# Altium integrated library Linear Technology Power Management LED Driver ICs.IntLib: 490 symbols (part 40 of 48)
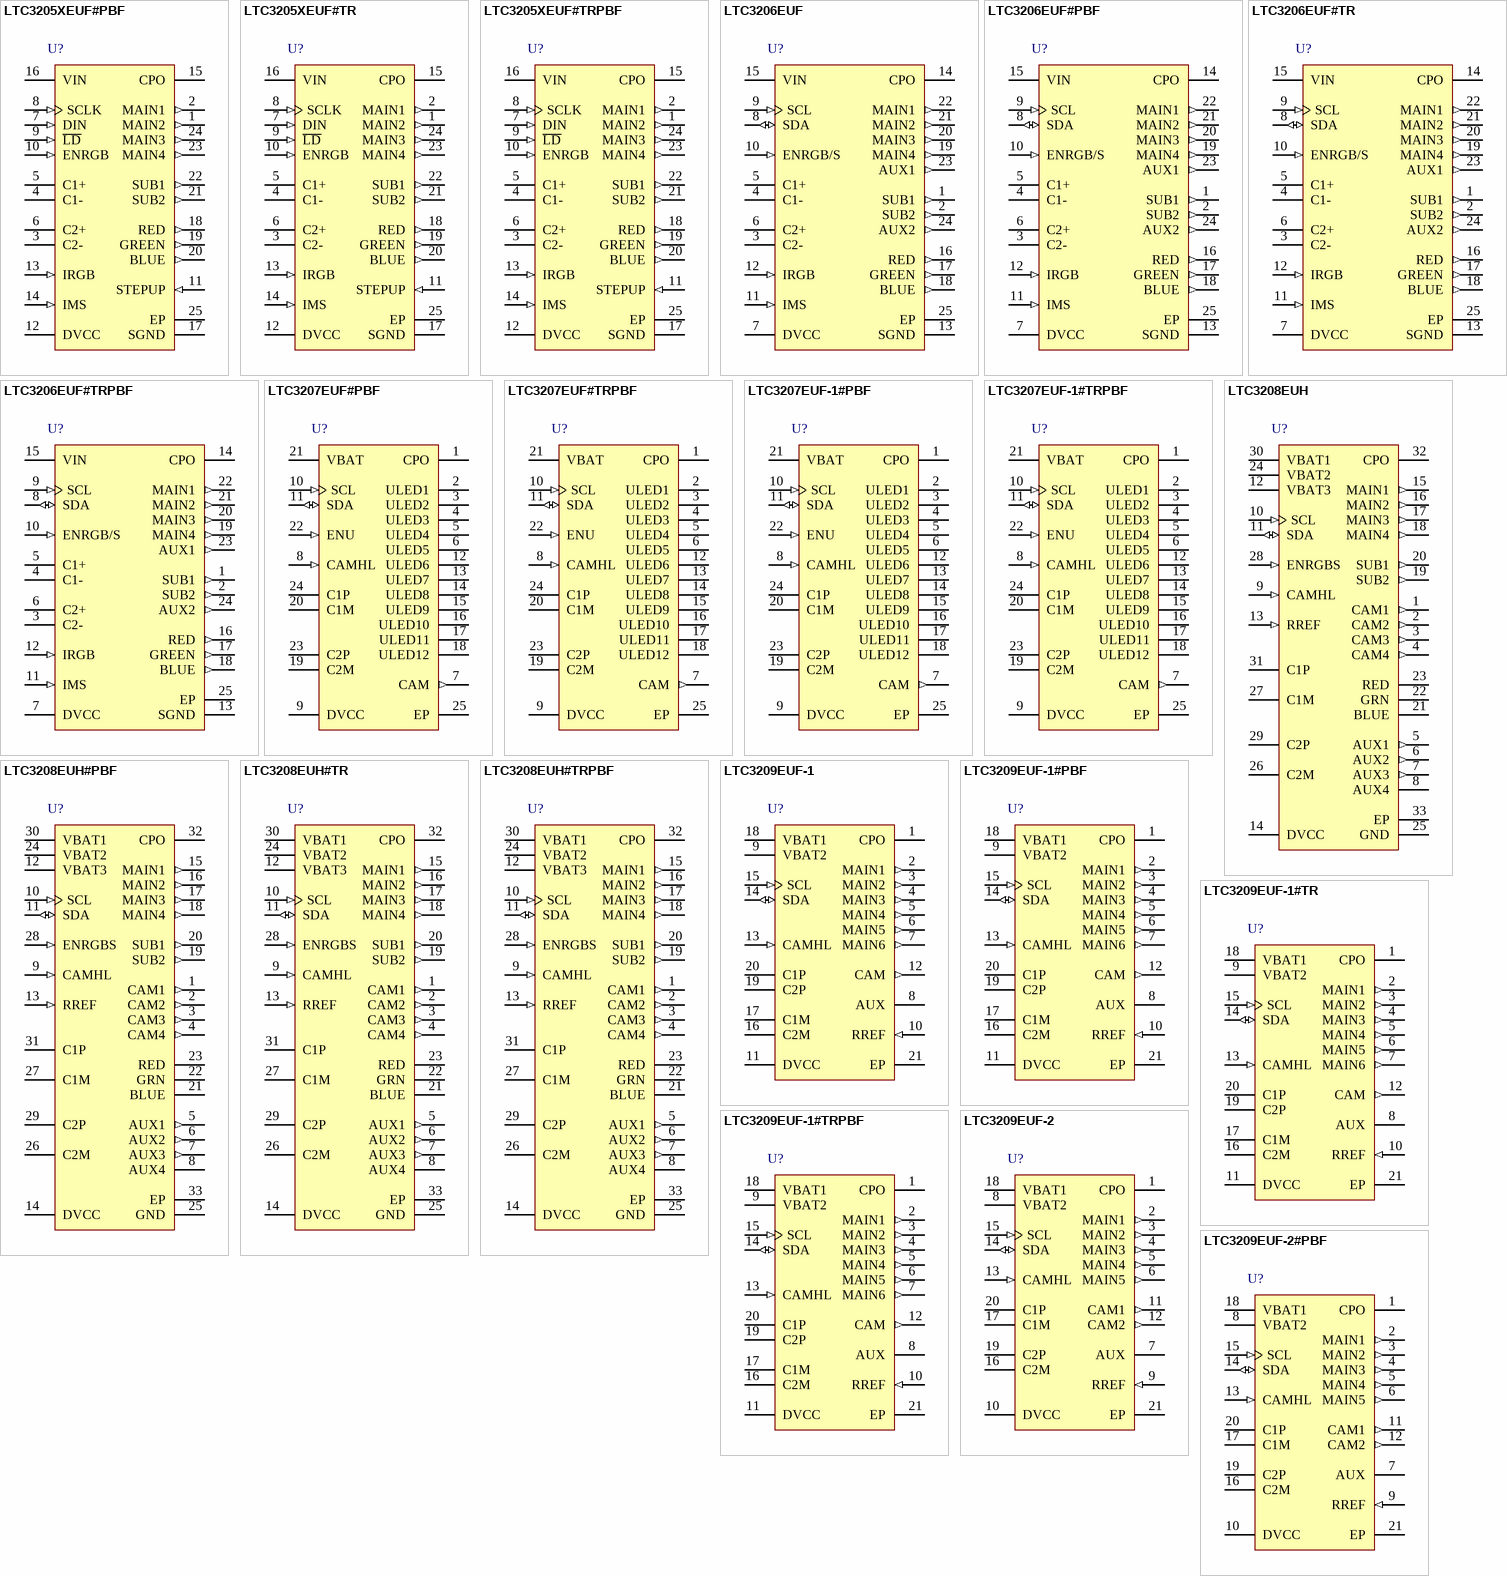
[diagram p59: symbols LTC3205XEUF#PBF to LTC3209EUF-2#PBF]

## LTC3208EUH#PBF
designator U?
High Current Software Configurable Multidisplay LED Controller, 2.9 to 4.5 V Vin, 5 V Vout MAX, 32-pin QFN (UH-32), -40 to 85 degC, Pb-Free; Manufacturer: Linear Technology; PartNumber: LTC3208EUH#PBF; Topology: Charge Pump, LED Driver; Vin Min(V): 2.9; DatasheetVersion: Rev. A; PackageVersion: Rev. D, 06/2010; PackageReference: UH-32; PackageDescription: 32-Pin Plastic QFN, Body 5 x 5 mm, Pitch 0.5 mm; Supplier 1: Digi-Key; Supplier Part Number 1: LTC3208EUH#PBF-ND; Supplier 2: Newark; Supplier Part Number 2: 56M7385; RoHS: TRUE; Mounting Technology: Surface Mount; Code_JEDEC: MO-220; ComponentLink1Description: Manufacturer URL; ComponentLink1URL: http://www.linear.com/; ComponentLink2Description: Datasheet; ComponentLink2URL: http://cds.linear.com/docs/en/datasheet/3208fa.pdf; ComponentLink3Description: Package Specification; ComponentLink3URL: http://cds.linear.com/docs/en/packaging/QFN_32_05-08-1693.pdf
footprint LT-UH-32_N (QFN, 32-Leads, Body 5.1x5.1mm, Pitch 0.5mm, Thermal Pad 3.45X3.45mm, IPC Medium Density)
footprint LT-UH-32_L (QFN, 32-Leads, Body 5.1x5.1mm, Pitch 0.5mm, Thermal Pad 3.45X3.45mm, IPC High Density)
footprint LT-UH-32_M (QFN, 32-Leads, Body 5.1x5.1mm, Pitch 0.5mm, Thermal Pad 3.45X3.45mm, IPC Low Density)
pins: 1 CAM1 (out) "Current Source Output for the CAM Display White LED. The LEDs on the CAM display can be set from 0mA to 102mA in 16 steps via software control and internal 4-bit linear DAC. Two 4-bit registers are available. One is used to (See Datasheet)", 2 CAM2 (out) "Current Source Output for the CAM Display White LED. The LEDs on the CAM display can be set from 0mA to 102mA in 16 steps via software control and internal 4-bit linear DAC. Two 4-bit registers are available. One is used to (See Datasheet)", 3 CAM3 (out) "Current Source Output for the CAM Display White LED. The LEDs on the CAM display can be set from 0mA to 102mA in 16 steps via software control and internal 4-bit linear DAC. Two 4-bit registers are available. One is used to (See Datasheet)", 4 CAM4 (out) "Current Source Output for the CAM Display White LED. The LEDs on the CAM display can be set from 0mA to 102mA in 16 steps via software control and internal 4-bit linear DAC. Two 4-bit registers are available. One is used to (See Datasheet)", 5 AUX1 (out) "Current Source Output for the AUX Display White LED. When used as a separate display, the LED current sources of the AUX display can be set from 0mA to 26mA in 16 steps via software control and internal 4-bit linear DAC. In (See Datasheet)", 6 AUX2 (out) "Current Source Output for the AUX Display White LED. When used as a separate display, the LED current sources of the AUX display can be set from 0mA to 26mA in 16 steps via software control and internal 4-bit linear DAC. In (See Datasheet)", 7 AUX3 (out) "Current Source Output for the AUX Display White LED. When used as a separate display, the LED current sources of the AUX display can be set from 0mA to 26mA in 16 steps via software control and internal 4-bit linear DAC. In (See Datasheet)", 8 AUX4 (oc) "Current Source Output for the AUX Display White LED. When used as a separate display, the LED current sources of the AUX display can be set from 0mA to 26mA in 16 steps via software control and internal 4-bit linear DAC. In (See Datasheet)", 9 CAMHL (in) "Logic Input. Selects CAM high register when asserted High and CAM Low Register when low. The high to low transition automatically resets the charge pump mode to 1x.", 10 SCL (in) "I2C Clock Input. The logic level for SCL is referenced to DVCC.", 11 SDA (io) "I2C Data Input for the Serial Port. Serial data is shifted in one bit per clock to control the LTC3208. The logic level is referenced to DVCC.", 12 VBAT3 (power) "Supply Voltage for the Entire Device. Three separate pins are used to isolate the charge pump from the analog sections to reduce noise. All pins must be connected together externally and bypassed with a 4.7uF low ESR ceramic (See Datasheet)", 13 RREF (in) ""Controls the Maximum Amount of LED Current for all Displays. The RREF voltage is 1.215V. An external resistor to ground sets the reference currents for all display DACs and support circuits. Since this resistor", 14 DVCC (power) "Supply Voltage for all Digital I/O Lines. This pin sets the logic reference level of the LTC3208. A UVLO circuit on the DVCC pin forces all registers to all 0s whenever DVCC is below the DVCC UVLO threshold. Bypass to GND (See Datasheet)", 15 MAIN1 (out) "Current Source Output for the MAIN Display White LED. The LEDs on the MAIN display can be set from 0uA to 27.5mA in 256 steps via software control and internal 8-bit linear DAC. Each output can be disabled externally by (See Datasheet)", 16 MAIN2 (out) "Current Source Output for the MAIN Display White LED. The LEDs on the MAIN display can be set from 0uA to 27.5mA in 256 steps via software control and internal 8-bit linear DAC. Each output can be disabled externally by (See Datasheet)", 17 MAIN3 (out) "Current Source Output for the MAIN Display White LED. The LEDs on the MAIN display can be set from 0uA to 27.5mA in 256 steps via software control and internal 8-bit linear DAC. Each output can be disabled externally by (See Datasheet)", 18 MAIN4 (out) "Current Source Output for the MAIN Display White LED. The LEDs on the MAIN display can be set from 0uA to 27.5mA in 256 steps via software control and internal 8-bit linear DAC. Each output can be disabled externally by (See Datasheet)", 19 SUB2 (out) "Current Source Output for the SUB Display White LED. The LEDs on the SUB display can be set from 0uA to 27.5mA in 256 steps via software control and an internal 8-bit linear DAC. Each output can be disabled externally by (See Datasheet)", 20 SUB1 (out) "Current Source Output for the SUB Display White LED. The LEDs on the SUB display can be set from 0uA to 27.5mA in 256 steps via software control and an internal 8-bit linear DAC. Each output can be disabled externally by (See Datasheet)", 21 BLUE (oc) "Current Source Output for the RGB Illuminator LED. The RGB currents can be independently set via the serial port. Currents up to 27mA can be programmed over 16 steps via the three internal 4-bit exponential DACs. These (See Datasheet)", 22 GRN (oc) "Current Source Output for the RGB Illuminator LED. The RGB currents can be independently set via the serial port. Currents up to 27mA can be programmed over 16 steps via the three internal 4-bit exponential DACs. These (See Datasheet)", 23 RED (oc) "Current Source Output for the RGB Illuminator LED. The RGB currents can be independently set via the serial port. Currents up to 27mA can be programmed over 16 steps via the three internal 4-bit exponential DACs. These (See Datasheet)", 24 VBAT2 (power) "Supply Voltage for the Entire Device. Three separate pins are used to isolate the charge pump from the analog sections to reduce noise. All pins must be connected together externally and bypassed with a 4.7uF low ESR ceramic (See Datasheet)", 25 GND (power) "System Ground. Connect Pin 25 and exposed pad Pin 33 directly to a low impedance ground plane.", 26 C2M "Charge Pump Flying Capacitor Pin. 2.2uF X7R or X5R ceramic capacitors should be connected from C1P to C1M and C2P to C2M.", 27 C1M "Charge Pump Flying Capacitor Pin. 2.2uF X7R or X5R ceramic capacitors should be connected from C1P to C1M and C2P to C2M.", 28 ENRGBS (in) "Logic Input. This pin is normally high and is used to enable or disable the RED, GREEN and BLUE LEDs or the SUB LEDs. The selection between RGB or SUB is made via an internal programmable bit. When the pin is toggled from (See Datasheet)", 29 C2P "Charge Pump Flying Capacitor Pin. 2.2uF X7R or X5R ceramic capacitors should be connected from C1P to C1M and C2P to C2M.", 30 VBAT1 (power) "Supply Voltage for the Entire Device. Three separate pins are used to isolate the charge pump from the analog sections to reduce noise. All pins must be connected together externally and bypassed with a 4.7uF low ESR ceramic (See Datasheet)", 31 C1P "Charge Pump Flying Capacitor Pin. 2.2uF X7R or X5R ceramic capacitors should be connected from C1P to C1M and C2P to C2M.", 32 CPO (power) "Output of the Charge Pump Used to Power All LEDs. A 4.7uF X5R or X7R ceramic capacitor should be connected to ground.", 33 EP (power) "System Ground. Connect Pin 25 and exposed pad Pin 33 directly to a low impedance ground plane."

## LTC3208EUH#TR
designator U?
High Current Software Configurable Multidisplay LED Controller, 2.9 to 4.5 V Vin, 5 V Vout MAX, 32-pin QFN (UH-32), -40 to 85 degC, Tape and Reel; Manufacturer: Linear Technology; PartNumber: LTC3208EUH#TR; Topology: Charge Pump, LED Driver; Vin Min(V): 2.9; DatasheetVersion: Rev. A; PackageVersion: Rev. D, 06/2010; PackageReference: UH-32; PackageDescription: 32-Pin Plastic QFN, Body 5 x 5 mm, Pitch 0.5 mm; Packing: Tape and Reel; RoHS: FALSE; Mounting Technology: Surface Mount; Code_JEDEC: MO-220; ComponentLink1Description: Manufacturer URL; ComponentLink1URL: http://www.linear.com/; ComponentLink2Description: Datasheet; ComponentLink2URL: http://cds.linear.com/docs/en/datasheet/3208fa.pdf; ComponentLink3Description: Package Specification; ComponentLink3URL: http://cds.linear.com/docs/en/packaging/QFN_32_05-08-1693.pdf
footprint LT-UH-32_N (QFN, 32-Leads, Body 5.1x5.1mm, Pitch 0.5mm, Thermal Pad 3.45X3.45mm, IPC Medium Density)
footprint LT-UH-32_L (QFN, 32-Leads, Body 5.1x5.1mm, Pitch 0.5mm, Thermal Pad 3.45X3.45mm, IPC High Density)
footprint LT-UH-32_M (QFN, 32-Leads, Body 5.1x5.1mm, Pitch 0.5mm, Thermal Pad 3.45X3.45mm, IPC Low Density)
pins: 1 CAM1 (out) "Current Source Output for the CAM Display White LED. The LEDs on the CAM display can be set from 0mA to 102mA in 16 steps via software control and internal 4-bit linear DAC. Two 4-bit registers are available. One is used to (See Datasheet)", 2 CAM2 (out) "Current Source Output for the CAM Display White LED. The LEDs on the CAM display can be set from 0mA to 102mA in 16 steps via software control and internal 4-bit linear DAC. Two 4-bit registers are available. One is used to (See Datasheet)", 3 CAM3 (out) "Current Source Output for the CAM Display White LED. The LEDs on the CAM display can be set from 0mA to 102mA in 16 steps via software control and internal 4-bit linear DAC. Two 4-bit registers are available. One is used to (See Datasheet)", 4 CAM4 (out) "Current Source Output for the CAM Display White LED. The LEDs on the CAM display can be set from 0mA to 102mA in 16 steps via software control and internal 4-bit linear DAC. Two 4-bit registers are available. One is used to (See Datasheet)", 5 AUX1 (out) "Current Source Output for the AUX Display White LED. When used as a separate display, the LED current sources of the AUX display can be set from 0mA to 26mA in 16 steps via software control and internal 4-bit linear DAC. In (See Datasheet)", 6 AUX2 (out) "Current Source Output for the AUX Display White LED. When used as a separate display, the LED current sources of the AUX display can be set from 0mA to 26mA in 16 steps via software control and internal 4-bit linear DAC. In (See Datasheet)", 7 AUX3 (out) "Current Source Output for the AUX Display White LED. When used as a separate display, the LED current sources of the AUX display can be set from 0mA to 26mA in 16 steps via software control and internal 4-bit linear DAC. In (See Datasheet)", 8 AUX4 (oc) "Current Source Output for the AUX Display White LED. When used as a separate display, the LED current sources of the AUX display can be set from 0mA to 26mA in 16 steps via software control and internal 4-bit linear DAC. In (See Datasheet)", 9 CAMHL (in) "Logic Input. Selects CAM high register when asserted High and CAM Low Register when low. The high to low transition automatically resets the charge pump mode to 1x.", 10 SCL (in) "I2C Clock Input. The logic level for SCL is referenced to DVCC.", 11 SDA (io) "I2C Data Input for the Serial Port. Serial data is shifted in one bit per clock to control the LTC3208. The logic level is referenced to DVCC.", 12 VBAT3 (power) "Supply Voltage for the Entire Device. Three separate pins are used to isolate the charge pump from the analog sections to reduce noise. All pins must be connected together externally and bypassed with a 4.7uF low ESR ceramic (See Datasheet)", 13 RREF (in) ""Controls the Maximum Amount of LED Current for all Displays. The RREF voltage is 1.215V. An external resistor to ground sets the reference currents for all display DACs and support circuits. Since this resistor", 14 DVCC (power) "Supply Voltage for all Digital I/O Lines. This pin sets the logic reference level of the LTC3208. A UVLO circuit on the DVCC pin forces all registers to all 0s whenever DVCC is below the DVCC UVLO threshold. Bypass to GND (See Datasheet)", 15 MAIN1 (out) "Current Source Output for the MAIN Display White LED. The LEDs on the MAIN display can be set from 0uA to 27.5mA in 256 steps via software control and internal 8-bit linear DAC. Each output can be disabled externally by (See Datasheet)", 16 MAIN2 (out) "Current Source Output for the MAIN Display White LED. The LEDs on the MAIN display can be set from 0uA to 27.5mA in 256 steps via software control and internal 8-bit linear DAC. Each output can be disabled externally by (See Datasheet)", 17 MAIN3 (out) "Current Source Output for the MAIN Display White LED. The LEDs on the MAIN display can be set from 0uA to 27.5mA in 256 steps via software control and internal 8-bit linear DAC. Each output can be disabled externally by (See Datasheet)", 18 MAIN4 (out) "Current Source Output for the MAIN Display White LED. The LEDs on the MAIN display can be set from 0uA to 27.5mA in 256 steps via software control and internal 8-bit linear DAC. Each output can be disabled externally by (See Datasheet)", 19 SUB2 (out) "Current Source Output for the SUB Display White LED. The LEDs on the SUB display can be set from 0uA to 27.5mA in 256 steps via software control and an internal 8-bit linear DAC. Each output can be disabled externally by (See Datasheet)", 20 SUB1 (out) "Current Source Output for the SUB Display White LED. The LEDs on the SUB display can be set from 0uA to 27.5mA in 256 steps via software control and an internal 8-bit linear DAC. Each output can be disabled externally by (See Datasheet)", 21 BLUE (oc) "Current Source Output for the RGB Illuminator LED. The RGB currents can be independently set via the serial port. Currents up to 27mA can be programmed over 16 steps via the three internal 4-bit exponential DACs. These (See Datasheet)", 22 GRN (oc) "Current Source Output for the RGB Illuminator LED. The RGB currents can be independently set via the serial port. Currents up to 27mA can be programmed over 16 steps via the three internal 4-bit exponential DACs. These (See Datasheet)", 23 RED (oc) "Current Source Output for the RGB Illuminator LED. The RGB currents can be independently set via the serial port. Currents up to 27mA can be programmed over 16 steps via the three internal 4-bit exponential DACs. These (See Datasheet)", 24 VBAT2 (power) "Supply Voltage for the Entire Device. Three separate pins are used to isolate the charge pump from the analog sections to reduce noise. All pins must be connected together externally and bypassed with a 4.7uF low ESR ceramic (See Datasheet)", 25 GND (power) "System Ground. Connect Pin 25 and exposed pad Pin 33 directly to a low impedance ground plane.", 26 C2M "Charge Pump Flying Capacitor Pin. 2.2uF X7R or X5R ceramic capacitors should be connected from C1P to C1M and C2P to C2M.", 27 C1M "Charge Pump Flying Capacitor Pin. 2.2uF X7R or X5R ceramic capacitors should be connected from C1P to C1M and C2P to C2M.", 28 ENRGBS (in) "Logic Input. This pin is normally high and is used to enable or disable the RED, GREEN and BLUE LEDs or the SUB LEDs. The selection between RGB or SUB is made via an internal programmable bit. When the pin is toggled from (See Datasheet)", 29 C2P "Charge Pump Flying Capacitor Pin. 2.2uF X7R or X5R ceramic capacitors should be connected from C1P to C1M and C2P to C2M.", 30 VBAT1 (power) "Supply Voltage for the Entire Device. Three separate pins are used to isolate the charge pump from the analog sections to reduce noise. All pins must be connected together externally and bypassed with a 4.7uF low ESR ceramic (See Datasheet)", 31 C1P "Charge Pump Flying Capacitor Pin. 2.2uF X7R or X5R ceramic capacitors should be connected from C1P to C1M and C2P to C2M.", 32 CPO (power) "Output of the Charge Pump Used to Power All LEDs. A 4.7uF X5R or X7R ceramic capacitor should be connected to ground.", 33 EP (power) "System Ground. Connect Pin 25 and exposed pad Pin 33 directly to a low impedance ground plane."

## LTC3208EUH#TRPBF
designator U?
High Current Software Configurable Multidisplay LED Controller, 2.9 to 4.5 V Vin, 5 V Vout MAX, 32-pin QFN (UH-32), -40 to 85 degC, Pb-Free, Tape and Reel; Manufacturer: Linear Technology; PartNumber: LTC3208EUH#TRPBF; Topology: Charge Pump, LED Driver; Vin Min(V): 2.9; DatasheetVersion: Rev. A; PackageVersion: Rev. D, 06/2010; PackageReference: UH-32; PackageDescription: 32-Pin Plastic QFN, Body 5 x 5 mm, Pitch 0.5 mm; Supplier 1: Digi-Key; Supplier Part Number 1: LTC3208EUH#TRPBF-ND; Packing: Tape and Reel; RoHS: TRUE; Mounting Technology: Surface Mount; Code_JEDEC: MO-220; ComponentLink1Description: Manufacturer URL; ComponentLink1URL: http://www.linear.com/; ComponentLink2Description: Datasheet; ComponentLink2URL: http://cds.linear.com/docs/en/datasheet/3208fa.pdf; ComponentLink3Description: Package Specification; ComponentLink3URL: http://cds.linear.com/docs/en/packaging/QFN_32_05-08-1693.pdf
footprint LT-UH-32_N (QFN, 32-Leads, Body 5.1x5.1mm, Pitch 0.5mm, Thermal Pad 3.45X3.45mm, IPC Medium Density)
footprint LT-UH-32_L (QFN, 32-Leads, Body 5.1x5.1mm, Pitch 0.5mm, Thermal Pad 3.45X3.45mm, IPC High Density)
footprint LT-UH-32_M (QFN, 32-Leads, Body 5.1x5.1mm, Pitch 0.5mm, Thermal Pad 3.45X3.45mm, IPC Low Density)
pins: 1 CAM1 (out) "Current Source Output for the CAM Display White LED. The LEDs on the CAM display can be set from 0mA to 102mA in 16 steps via software control and internal 4-bit linear DAC. Two 4-bit registers are available. One is used to (See Datasheet)", 2 CAM2 (out) "Current Source Output for the CAM Display White LED. The LEDs on the CAM display can be set from 0mA to 102mA in 16 steps via software control and internal 4-bit linear DAC. Two 4-bit registers are available. One is used to (See Datasheet)", 3 CAM3 (out) "Current Source Output for the CAM Display White LED. The LEDs on the CAM display can be set from 0mA to 102mA in 16 steps via software control and internal 4-bit linear DAC. Two 4-bit registers are available. One is used to (See Datasheet)", 4 CAM4 (out) "Current Source Output for the CAM Display White LED. The LEDs on the CAM display can be set from 0mA to 102mA in 16 steps via software control and internal 4-bit linear DAC. Two 4-bit registers are available. One is used to (See Datasheet)", 5 AUX1 (out) "Current Source Output for the AUX Display White LED. When used as a separate display, the LED current sources of the AUX display can be set from 0mA to 26mA in 16 steps via software control and internal 4-bit linear DAC. In (See Datasheet)", 6 AUX2 (out) "Current Source Output for the AUX Display White LED. When used as a separate display, the LED current sources of the AUX display can be set from 0mA to 26mA in 16 steps via software control and internal 4-bit linear DAC. In (See Datasheet)", 7 AUX3 (out) "Current Source Output for the AUX Display White LED. When used as a separate display, the LED current sources of the AUX display can be set from 0mA to 26mA in 16 steps via software control and internal 4-bit linear DAC. In (See Datasheet)", 8 AUX4 (oc) "Current Source Output for the AUX Display White LED. When used as a separate display, the LED current sources of the AUX display can be set from 0mA to 26mA in 16 steps via software control and internal 4-bit linear DAC. In (See Datasheet)", 9 CAMHL (in) "Logic Input. Selects CAM high register when asserted High and CAM Low Register when low. The high to low transition automatically resets the charge pump mode to 1x.", 10 SCL (in) "I2C Clock Input. The logic level for SCL is referenced to DVCC.", 11 SDA (io) "I2C Data Input for the Serial Port. Serial data is shifted in one bit per clock to control the LTC3208. The logic level is referenced to DVCC.", 12 VBAT3 (power) "Supply Voltage for the Entire Device. Three separate pins are used to isolate the charge pump from the analog sections to reduce noise. All pins must be connected together externally and bypassed with a 4.7uF low ESR ceramic (See Datasheet)", 13 RREF (in) ""Controls the Maximum Amount of LED Current for all Displays. The RREF voltage is 1.215V. An external resistor to ground sets the reference currents for all display DACs and support circuits. Since this resistor", 14 DVCC (power) "Supply Voltage for all Digital I/O Lines. This pin sets the logic reference level of the LTC3208. A UVLO circuit on the DVCC pin forces all registers to all 0s whenever DVCC is below the DVCC UVLO threshold. Bypass to GND (See Datasheet)", 15 MAIN1 (out) "Current Source Output for the MAIN Display White LED. The LEDs on the MAIN display can be set from 0uA to 27.5mA in 256 steps via software control and internal 8-bit linear DAC. Each output can be disabled externally by (See Datasheet)", 16 MAIN2 (out) "Current Source Output for the MAIN Display White LED. The LEDs on the MAIN display can be set from 0uA to 27.5mA in 256 steps via software control and internal 8-bit linear DAC. Each output can be disabled externally by (See Datasheet)", 17 MAIN3 (out) "Current Source Output for the MAIN Display White LED. The LEDs on the MAIN display can be set from 0uA to 27.5mA in 256 steps via software control and internal 8-bit linear DAC. Each output can be disabled externally by (See Datasheet)", 18 MAIN4 (out) "Current Source Output for the MAIN Display White LED. The LEDs on the MAIN display can be set from 0uA to 27.5mA in 256 steps via software control and internal 8-bit linear DAC. Each output can be disabled externally by (See Datasheet)", 19 SUB2 (out) "Current Source Output for the SUB Display White LED. The LEDs on the SUB display can be set from 0uA to 27.5mA in 256 steps via software control and an internal 8-bit linear DAC. Each output can be disabled externally by (See Datasheet)", 20 SUB1 (out) "Current Source Output for the SUB Display White LED. The LEDs on the SUB display can be set from 0uA to 27.5mA in 256 steps via software control and an internal 8-bit linear DAC. Each output can be disabled externally by (See Datasheet)", 21 BLUE (oc) "Current Source Output for the RGB Illuminator LED. The RGB currents can be independently set via the serial port. Currents up to 27mA can be programmed over 16 steps via the three internal 4-bit exponential DACs. These (See Datasheet)", 22 GRN (oc) "Current Source Output for the RGB Illuminator LED. The RGB currents can be independently set via the serial port. Currents up to 27mA can be programmed over 16 steps via the three internal 4-bit exponential DACs. These (See Datasheet)", 23 RED (oc) "Current Source Output for the RGB Illuminator LED. The RGB currents can be independently set via the serial port. Currents up to 27mA can be programmed over 16 steps via the three internal 4-bit exponential DACs. These (See Datasheet)", 24 VBAT2 (power) "Supply Voltage for the Entire Device. Three separate pins are used to isolate the charge pump from the analog sections to reduce noise. All pins must be connected together externally and bypassed with a 4.7uF low ESR ceramic (See Datasheet)", 25 GND (power) "System Ground. Connect Pin 25 and exposed pad Pin 33 directly to a low impedance ground plane.", 26 C2M "Charge Pump Flying Capacitor Pin. 2.2uF X7R or X5R ceramic capacitors should be connected from C1P to C1M and C2P to C2M.", 27 C1M "Charge Pump Flying Capacitor Pin. 2.2uF X7R or X5R ceramic capacitors should be connected from C1P to C1M and C2P to C2M.", 28 ENRGBS (in) "Logic Input. This pin is normally high and is used to enable or disable the RED, GREEN and BLUE LEDs or the SUB LEDs. The selection between RGB or SUB is made via an internal programmable bit. When the pin is toggled from (See Datasheet)", 29 C2P "Charge Pump Flying Capacitor Pin. 2.2uF X7R or X5R ceramic capacitors should be connected from C1P to C1M and C2P to C2M.", 30 VBAT1 (power) "Supply Voltage for the Entire Device. Three separate pins are used to isolate the charge pump from the analog sections to reduce noise. All pins must be connected together externally and bypassed with a 4.7uF low ESR ceramic (See Datasheet)", 31 C1P "Charge Pump Flying Capacitor Pin. 2.2uF X7R or X5R ceramic capacitors should be connected from C1P to C1M and C2P to C2M.", 32 CPO (power) "Output of the Charge Pump Used to Power All LEDs. A 4.7uF X5R or X7R ceramic capacitor should be connected to ground.", 33 EP (power) "System Ground. Connect Pin 25 and exposed pad Pin 33 directly to a low impedance ground plane."

## LTC3209EUF-1
designator U?
600 mA MAIN / Camera LED Controller, 2.9 to 4.5 V Vin, 5.1 V Vout MAX, 20-pin QFN (UF-20), -40 to 85 degC; Manufacturer: Linear Technology; PartNumber: LTC3209EUF-1; Topology: Charge Pump, LED Driver; Vin Min(V): 2.9; DatasheetVersion: Rev. A; PackageVersion: Rev. A, 10/2010; PackageReference: UF20; PackageDescription: 20-Pin Plastic QFN, Body 4 x 4 mm, Pitch 0.5 mm; RoHS: FALSE; Mounting Technology: Surface Mount; Code_JEDEC: MO-220; ComponentLink1Description: Manufacturer URL; ComponentLink1URL: http://www.linear.com/; ComponentLink2Description: Datasheet; ComponentLink2URL: http://cds.linear.com/docs/en/datasheet/320912fa.pdf; ComponentLink3Description: Package Specification; ComponentLink3URL: http://cds.linear.com/docs/en/packaging/QFN_20_05-08-1710.pdf
footprint LT-UF-20_N (QFN, 20-Leads, Body 4.1x4.1mm, Pitch 0.5mm, Thermal Pad 2.45x2.45mm, IPC Medium Density)
footprint LT-UF-20_L (QFN, 20-Leads, Body 4.1x4.1mm, Pitch 0.5mm, Thermal Pad 2.45x2.45mm, IPC High Density)
footprint LT-UF-20_M (QFN, 20-Leads, Body 4.1x4.1mm, Pitch 0.5mm, Thermal Pad 2.45x2.45mm, IPC Low Density)
pins: 1 CPO (power) "Output of the Charge Pump Used to Power LEDs. A 2.2uF X5R or X7R ceramic capacitor should be connected to ground.", 2 MAIN1 (out) "Current Source Output for the MAIN Display White LED. The LEDs on the MAIN display can be set from 0mA to 28mA in 256 steps via software control and internal 8-bit linear DAC. Each output can be disabled externally by (See Datasheet)", 3 MAIN2 (out) "Current Source Output for the MAIN Display White LED. The LEDs on the MAIN display can be set from 0mA to 28mA in 256 steps via software control and internal 8-bit linear DAC. Each output can be disabled externally by (See Datasheet)", 4 MAIN3 (out) "Current Source Output for the MAIN Display White LED. The LEDs on the MAIN display can be set from 0mA to 28mA in 256 steps via software control and internal 8-bit linear DAC. Each output can be disabled externally by (See Datasheet)", 5 MAIN4 (out) "Current Source Output for the MAIN Display White LED. The LEDs on the MAIN display can be set from 0mA to 28mA in 256 steps via software control and internal 8-bit linear DAC. Each output can be disabled externally by (See Datasheet)", 6 MAIN5 (out) "Current Source Output for the MAIN Display White LED. The LEDs on the MAIN display can be set from 0mA to 28mA in 256 steps via software control and internal 8-bit linear DAC. Each output can be disabled externally by (See Datasheet)", 7 MAIN6 (out) "Current Source Output for the MAIN Display White LED. The LEDs on the MAIN display can be set from 0mA to 28mA in 256 steps via software control and internal 8-bit linear DAC. Each output can be disabled externally by (See Datasheet)", 8 AUX (oc) "Current Source Output for the AUX Display LED. The LED current source can be set from 0mA to 13.75mA in 4 steps via software control and internal 2-bit DAC. AUX does not have dropout sensing and cannot be disabled by (See Datasheet)", 9 VBAT2 (power) "Supply Voltage for the Entire Device. Two separate pins are used to isolate the charge pump from the analog sections to reduce noise. Both pins must be connected together externally and bypassed with a single 2.2uF low ESR (See Datasheet)", 10 RREF (in) "This pin controls the maximum amount of LED current for all displays. The RREF voltage is 1.23V. An external 24.3k resistor to ground sets the reference currents for all display DACs and support circuits for nominal MAIN (See Datasheet)", 11 DVCC (power) "Supply Voltage for All Digital I/O Lines. This pin sets the logic reference level of the LTC3209-1. Decouple DVCC to GND with a 0.1uF capacitor. A UVLO circuit on the DVCC pin forces all registers to all 0s whenever DVCC is (See Datasheet)", 12 CAM (out) "Current Source Output for the CAM Display White LED. The LED on the CAM display can be set from 0mA to 400mA in 16 steps via software control and internal 4-bit linear DAC. Two 4-bit registers are available. One is used to (See Datasheet)", 13 CAMHL (in) "This pin selects CAM high current register when asserted high and CAM low current register when low. The high to low transition automatically resets the charge pump mode to 1x.", 14 SDA (io) "I2C Data Input for the Serial Port. Serial data is shifted in one bit per clock to control the LTC3209-1. The logic level is referenced to DVCC.", 15 SCL (in) "I2C Clock Input. The logic level for SCL is referenced to DVCC.", 16 C2M "Charge Pump Flying Capacitor Pins. A 2.2uF X7R or X5R ceramic capacitor should be connected from C1P to C1M and C2P to C2M.", 17 C1M "Charge Pump Flying Capacitor Pins. A 2.2uF X7R or X5R ceramic capacitor should be connected from C1P to C1M and C2P to C2M.", 18 VBAT1 (power) "Supply Voltage for the Entire Device. Two separate pins are used to isolate the charge pump from the analog sections to reduce noise. Both pins must be connected together externally and bypassed with a single 2.2uF low ESR (See Datasheet)", 19 C2P "Charge Pump Flying Capacitor Pins. A 2.2uF X7R or X5R ceramic capacitor should be connected from C1P to C1M and C2P to C2M.", 20 C1P "Charge Pump Flying Capacitor Pins. A 2.2uF X7R or X5R ceramic capacitor should be connected from C1P to C1M and C2P to C2M.", 21 EP (power) "System Ground. Connect Exposed Pad to PCB ground plane."

## LTC3209EUF-1#PBF
designator U?
600 mA MAIN / Camera LED Controller, 2.9 to 4.5 V Vin, 5.1 V Vout MAX, 20-pin QFN (UF-20), -40 to 85 degC, Pb-Free; Manufacturer: Linear Technology; PartNumber: LTC3209EUF-1#PBF; Topology: Charge Pump, LED Driver; Vin Min(V): 2.9; DatasheetVersion: Rev. A; PackageVersion: Rev. A, 10/2010; PackageReference: UF20; PackageDescription: 20-Pin Plastic QFN, Body 4 x 4 mm, Pitch 0.5 mm; Supplier 1: Digi-Key; Supplier Part Number 1: LTC3209EUF-1#PBF-ND; Supplier 2: Farnell; Supplier Part Number 2: 1226275; RoHS: TRUE; Mounting Technology: Surface Mount; Code_JEDEC: MO-220; ComponentLink1Description: Manufacturer URL; ComponentLink1URL: http://www.linear.com/; ComponentLink2Description: Datasheet; ComponentLink2URL: http://cds.linear.com/docs/en/datasheet/320912fa.pdf; ComponentLink3Description: Package Specification; ComponentLink3URL: http://cds.linear.com/docs/en/packaging/QFN_20_05-08-1710.pdf
footprint LT-UF-20_N (QFN, 20-Leads, Body 4.1x4.1mm, Pitch 0.5mm, Thermal Pad 2.45x2.45mm, IPC Medium Density)
footprint LT-UF-20_L (QFN, 20-Leads, Body 4.1x4.1mm, Pitch 0.5mm, Thermal Pad 2.45x2.45mm, IPC High Density)
footprint LT-UF-20_M (QFN, 20-Leads, Body 4.1x4.1mm, Pitch 0.5mm, Thermal Pad 2.45x2.45mm, IPC Low Density)
pins: 1 CPO (power) "Output of the Charge Pump Used to Power LEDs. A 2.2uF X5R or X7R ceramic capacitor should be connected to ground.", 2 MAIN1 (out) "Current Source Output for the MAIN Display White LED. The LEDs on the MAIN display can be set from 0mA to 28mA in 256 steps via software control and internal 8-bit linear DAC. Each output can be disabled externally by (See Datasheet)", 3 MAIN2 (out) "Current Source Output for the MAIN Display White LED. The LEDs on the MAIN display can be set from 0mA to 28mA in 256 steps via software control and internal 8-bit linear DAC. Each output can be disabled externally by (See Datasheet)", 4 MAIN3 (out) "Current Source Output for the MAIN Display White LED. The LEDs on the MAIN display can be set from 0mA to 28mA in 256 steps via software control and internal 8-bit linear DAC. Each output can be disabled externally by (See Datasheet)", 5 MAIN4 (out) "Current Source Output for the MAIN Display White LED. The LEDs on the MAIN display can be set from 0mA to 28mA in 256 steps via software control and internal 8-bit linear DAC. Each output can be disabled externally by (See Datasheet)", 6 MAIN5 (out) "Current Source Output for the MAIN Display White LED. The LEDs on the MAIN display can be set from 0mA to 28mA in 256 steps via software control and internal 8-bit linear DAC. Each output can be disabled externally by (See Datasheet)", 7 MAIN6 (out) "Current Source Output for the MAIN Display White LED. The LEDs on the MAIN display can be set from 0mA to 28mA in 256 steps via software control and internal 8-bit linear DAC. Each output can be disabled externally by (See Datasheet)", 8 AUX (oc) "Current Source Output for the AUX Display LED. The LED current source can be set from 0mA to 13.75mA in 4 steps via software control and internal 2-bit DAC. AUX does not have dropout sensing and cannot be disabled by (See Datasheet)", 9 VBAT2 (power) "Supply Voltage for the Entire Device. Two separate pins are used to isolate the charge pump from the analog sections to reduce noise. Both pins must be connected together externally and bypassed with a single 2.2uF low ESR (See Datasheet)", 10 RREF (in) "This pin controls the maximum amount of LED current for all displays. The RREF voltage is 1.23V. An external 24.3k resistor to ground sets the reference currents for all display DACs and support circuits for nominal MAIN (See Datasheet)", 11 DVCC (power) "Supply Voltage for All Digital I/O Lines. This pin sets the logic reference level of the LTC3209-1. Decouple DVCC to GND with a 0.1uF capacitor. A UVLO circuit on the DVCC pin forces all registers to all 0s whenever DVCC is (See Datasheet)", 12 CAM (out) "Current Source Output for the CAM Display White LED. The LED on the CAM display can be set from 0mA to 400mA in 16 steps via software control and internal 4-bit linear DAC. Two 4-bit registers are available. One is used to (See Datasheet)", 13 CAMHL (in) "This pin selects CAM high current register when asserted high and CAM low current register when low. The high to low transition automatically resets the charge pump mode to 1x.", 14 SDA (io) "I2C Data Input for the Serial Port. Serial data is shifted in one bit per clock to control the LTC3209-1. The logic level is referenced to DVCC.", 15 SCL (in) "I2C Clock Input. The logic level for SCL is referenced to DVCC.", 16 C2M "Charge Pump Flying Capacitor Pins. A 2.2uF X7R or X5R ceramic capacitor should be connected from C1P to C1M and C2P to C2M.", 17 C1M "Charge Pump Flying Capacitor Pins. A 2.2uF X7R or X5R ceramic capacitor should be connected from C1P to C1M and C2P to C2M.", 18 VBAT1 (power) "Supply Voltage for the Entire Device. Two separate pins are used to isolate the charge pump from the analog sections to reduce noise. Both pins must be connected together externally and bypassed with a single 2.2uF low ESR (See Datasheet)", 19 C2P "Charge Pump Flying Capacitor Pins. A 2.2uF X7R or X5R ceramic capacitor should be connected from C1P to C1M and C2P to C2M.", 20 C1P "Charge Pump Flying Capacitor Pins. A 2.2uF X7R or X5R ceramic capacitor should be connected from C1P to C1M and C2P to C2M.", 21 EP (power) "System Ground. Connect Exposed Pad to PCB ground plane."

## LTC3209EUF-1#TR
designator U?
600 mA MAIN / Camera LED Controller, 2.9 to 4.5 V Vin, 5.1 V Vout MAX, 20-pin QFN (UF-20), -40 to 85 degC, Tape and Reel; Manufacturer: Linear Technology; PartNumber: LTC3209EUF-1#TR; Topology: Charge Pump, LED Driver; Vin Min(V): 2.9; DatasheetVersion: Rev. A; PackageVersion: Rev. A, 10/2010; PackageReference: UF20; PackageDescription: 20-Pin Plastic QFN, Body 4 x 4 mm, Pitch 0.5 mm; Packing: Tape and Reel; RoHS: FALSE; Mounting Technology: Surface Mount; Code_JEDEC: MO-220; ComponentLink1Description: Manufacturer URL; ComponentLink1URL: http://www.linear.com/; ComponentLink2Description: Datasheet; ComponentLink2URL: http://cds.linear.com/docs/en/datasheet/320912fa.pdf; ComponentLink3Description: Package Specification; ComponentLink3URL: http://cds.linear.com/docs/en/packaging/QFN_20_05-08-1710.pdf
footprint LT-UF-20_N (QFN, 20-Leads, Body 4.1x4.1mm, Pitch 0.5mm, Thermal Pad 2.45x2.45mm, IPC Medium Density)
footprint LT-UF-20_L (QFN, 20-Leads, Body 4.1x4.1mm, Pitch 0.5mm, Thermal Pad 2.45x2.45mm, IPC High Density)
footprint LT-UF-20_M (QFN, 20-Leads, Body 4.1x4.1mm, Pitch 0.5mm, Thermal Pad 2.45x2.45mm, IPC Low Density)
pins: 1 CPO (power) "Output of the Charge Pump Used to Power LEDs. A 2.2uF X5R or X7R ceramic capacitor should be connected to ground.", 2 MAIN1 (out) "Current Source Output for the MAIN Display White LED. The LEDs on the MAIN display can be set from 0mA to 28mA in 256 steps via software control and internal 8-bit linear DAC. Each output can be disabled externally by (See Datasheet)", 3 MAIN2 (out) "Current Source Output for the MAIN Display White LED. The LEDs on the MAIN display can be set from 0mA to 28mA in 256 steps via software control and internal 8-bit linear DAC. Each output can be disabled externally by (See Datasheet)", 4 MAIN3 (out) "Current Source Output for the MAIN Display White LED. The LEDs on the MAIN display can be set from 0mA to 28mA in 256 steps via software control and internal 8-bit linear DAC. Each output can be disabled externally by (See Datasheet)", 5 MAIN4 (out) "Current Source Output for the MAIN Display White LED. The LEDs on the MAIN display can be set from 0mA to 28mA in 256 steps via software control and internal 8-bit linear DAC. Each output can be disabled externally by (See Datasheet)", 6 MAIN5 (out) "Current Source Output for the MAIN Display White LED. The LEDs on the MAIN display can be set from 0mA to 28mA in 256 steps via software control and internal 8-bit linear DAC. Each output can be disabled externally by (See Datasheet)", 7 MAIN6 (out) "Current Source Output for the MAIN Display White LED. The LEDs on the MAIN display can be set from 0mA to 28mA in 256 steps via software control and internal 8-bit linear DAC. Each output can be disabled externally by (See Datasheet)", 8 AUX (oc) "Current Source Output for the AUX Display LED. The LED current source can be set from 0mA to 13.75mA in 4 steps via software control and internal 2-bit DAC. AUX does not have dropout sensing and cannot be disabled by (See Datasheet)", 9 VBAT2 (power) "Supply Voltage for the Entire Device. Two separate pins are used to isolate the charge pump from the analog sections to reduce noise. Both pins must be connected together externally and bypassed with a single 2.2uF low ESR (See Datasheet)", 10 RREF (in) "This pin controls the maximum amount of LED current for all displays. The RREF voltage is 1.23V. An external 24.3k resistor to ground sets the reference currents for all display DACs and support circuits for nominal MAIN (See Datasheet)", 11 DVCC (power) "Supply Voltage for All Digital I/O Lines. This pin sets the logic reference level of the LTC3209-1. Decouple DVCC to GND with a 0.1uF capacitor. A UVLO circuit on the DVCC pin forces all registers to all 0s whenever DVCC is (See Datasheet)", 12 CAM (out) "Current Source Output for the CAM Display White LED. The LED on the CAM display can be set from 0mA to 400mA in 16 steps via software control and internal 4-bit linear DAC. Two 4-bit registers are available. One is used to (See Datasheet)", 13 CAMHL (in) "This pin selects CAM high current register when asserted high and CAM low current register when low. The high to low transition automatically resets the charge pump mode to 1x.", 14 SDA (io) "I2C Data Input for the Serial Port. Serial data is shifted in one bit per clock to control the LTC3209-1. The logic level is referenced to DVCC.", 15 SCL (in) "I2C Clock Input. The logic level for SCL is referenced to DVCC.", 16 C2M "Charge Pump Flying Capacitor Pins. A 2.2uF X7R or X5R ceramic capacitor should be connected from C1P to C1M and C2P to C2M.", 17 C1M "Charge Pump Flying Capacitor Pins. A 2.2uF X7R or X5R ceramic capacitor should be connected from C1P to C1M and C2P to C2M.", 18 VBAT1 (power) "Supply Voltage for the Entire Device. Two separate pins are used to isolate the charge pump from the analog sections to reduce noise. Both pins must be connected together externally and bypassed with a single 2.2uF low ESR (See Datasheet)", 19 C2P "Charge Pump Flying Capacitor Pins. A 2.2uF X7R or X5R ceramic capacitor should be connected from C1P to C1M and C2P to C2M.", 20 C1P "Charge Pump Flying Capacitor Pins. A 2.2uF X7R or X5R ceramic capacitor should be connected from C1P to C1M and C2P to C2M.", 21 EP (power) "System Ground. Connect Exposed Pad to PCB ground plane."

## LTC3209EUF-1#TRPBF
designator U?
600 mA MAIN / Camera LED Controller, 2.9 to 4.5 V Vin, 5.1 V Vout MAX, 20-pin QFN (UF-20), -40 to 85 degC, Pb-Free, Tape and Reel; Manufacturer: Linear Technology; PartNumber: LTC3209EUF-1#TRPBF; Topology: Charge Pump, LED Driver; Vin Min(V): 2.9; DatasheetVersion: Rev. A; PackageVersion: Rev. A, 10/2010; PackageReference: UF20; PackageDescription: 20-Pin Plastic QFN, Body 4 x 4 mm, Pitch 0.5 mm; Supplier 1: Digi-Key; Supplier Part Number 1: LTC3209EUF-1#TRPBF-ND; Packing: Tape and Reel; RoHS: TRUE; Mounting Technology: Surface Mount; Code_JEDEC: MO-220; ComponentLink1Description: Manufacturer URL; ComponentLink1URL: http://www.linear.com/; ComponentLink2Description: Datasheet; ComponentLink2URL: http://cds.linear.com/docs/en/datasheet/320912fa.pdf; ComponentLink3Description: Package Specification; ComponentLink3URL: http://cds.linear.com/docs/en/packaging/QFN_20_05-08-1710.pdf
footprint LT-UF-20_N (QFN, 20-Leads, Body 4.1x4.1mm, Pitch 0.5mm, Thermal Pad 2.45x2.45mm, IPC Medium Density)
footprint LT-UF-20_L (QFN, 20-Leads, Body 4.1x4.1mm, Pitch 0.5mm, Thermal Pad 2.45x2.45mm, IPC High Density)
footprint LT-UF-20_M (QFN, 20-Leads, Body 4.1x4.1mm, Pitch 0.5mm, Thermal Pad 2.45x2.45mm, IPC Low Density)
pins: 1 CPO (power) "Output of the Charge Pump Used to Power LEDs. A 2.2uF X5R or X7R ceramic capacitor should be connected to ground.", 2 MAIN1 (out) "Current Source Output for the MAIN Display White LED. The LEDs on the MAIN display can be set from 0mA to 28mA in 256 steps via software control and internal 8-bit linear DAC. Each output can be disabled externally by (See Datasheet)", 3 MAIN2 (out) "Current Source Output for the MAIN Display White LED. The LEDs on the MAIN display can be set from 0mA to 28mA in 256 steps via software control and internal 8-bit linear DAC. Each output can be disabled externally by (See Datasheet)", 4 MAIN3 (out) "Current Source Output for the MAIN Display White LED. The LEDs on the MAIN display can be set from 0mA to 28mA in 256 steps via software control and internal 8-bit linear DAC. Each output can be disabled externally by (See Datasheet)", 5 MAIN4 (out) "Current Source Output for the MAIN Display White LED. The LEDs on the MAIN display can be set from 0mA to 28mA in 256 steps via software control and internal 8-bit linear DAC. Each output can be disabled externally by (See Datasheet)", 6 MAIN5 (out) "Current Source Output for the MAIN Display White LED. The LEDs on the MAIN display can be set from 0mA to 28mA in 256 steps via software control and internal 8-bit linear DAC. Each output can be disabled externally by (See Datasheet)", 7 MAIN6 (out) "Current Source Output for the MAIN Display White LED. The LEDs on the MAIN display can be set from 0mA to 28mA in 256 steps via software control and internal 8-bit linear DAC. Each output can be disabled externally by (See Datasheet)", 8 AUX (oc) "Current Source Output for the AUX Display LED. The LED current source can be set from 0mA to 13.75mA in 4 steps via software control and internal 2-bit DAC. AUX does not have dropout sensing and cannot be disabled by (See Datasheet)", 9 VBAT2 (power) "Supply Voltage for the Entire Device. Two separate pins are used to isolate the charge pump from the analog sections to reduce noise. Both pins must be connected together externally and bypassed with a single 2.2uF low ESR (See Datasheet)", 10 RREF (in) "This pin controls the maximum amount of LED current for all displays. The RREF voltage is 1.23V. An external 24.3k resistor to ground sets the reference currents for all display DACs and support circuits for nominal MAIN (See Datasheet)", 11 DVCC (power) "Supply Voltage for All Digital I/O Lines. This pin sets the logic reference level of the LTC3209-1. Decouple DVCC to GND with a 0.1uF capacitor. A UVLO circuit on the DVCC pin forces all registers to all 0s whenever DVCC is (See Datasheet)", 12 CAM (out) "Current Source Output for the CAM Display White LED. The LED on the CAM display can be set from 0mA to 400mA in 16 steps via software control and internal 4-bit linear DAC. Two 4-bit registers are available. One is used to (See Datasheet)", 13 CAMHL (in) "This pin selects CAM high current register when asserted high and CAM low current register when low. The high to low transition automatically resets the charge pump mode to 1x.", 14 SDA (io) "I2C Data Input for the Serial Port. Serial data is shifted in one bit per clock to control the LTC3209-1. The logic level is referenced to DVCC.", 15 SCL (in) "I2C Clock Input. The logic level for SCL is referenced to DVCC.", 16 C2M "Charge Pump Flying Capacitor Pins. A 2.2uF X7R or X5R ceramic capacitor should be connected from C1P to C1M and C2P to C2M.", 17 C1M "Charge Pump Flying Capacitor Pins. A 2.2uF X7R or X5R ceramic capacitor should be connected from C1P to C1M and C2P to C2M.", 18 VBAT1 (power) "Supply Voltage for the Entire Device. Two separate pins are used to isolate the charge pump from the analog sections to reduce noise. Both pins must be connected together externally and bypassed with a single 2.2uF low ESR (See Datasheet)", 19 C2P "Charge Pump Flying Capacitor Pins. A 2.2uF X7R or X5R ceramic capacitor should be connected from C1P to C1M and C2P to C2M.", 20 C1P "Charge Pump Flying Capacitor Pins. A 2.2uF X7R or X5R ceramic capacitor should be connected from C1P to C1M and C2P to C2M.", 21 EP (power) "System Ground. Connect Exposed Pad to PCB ground plane."